# Altium integrated library Analog Devices Data Converters Analog-to-Digital Converters.IntLib: 2404 symbols (part 182 of 346)
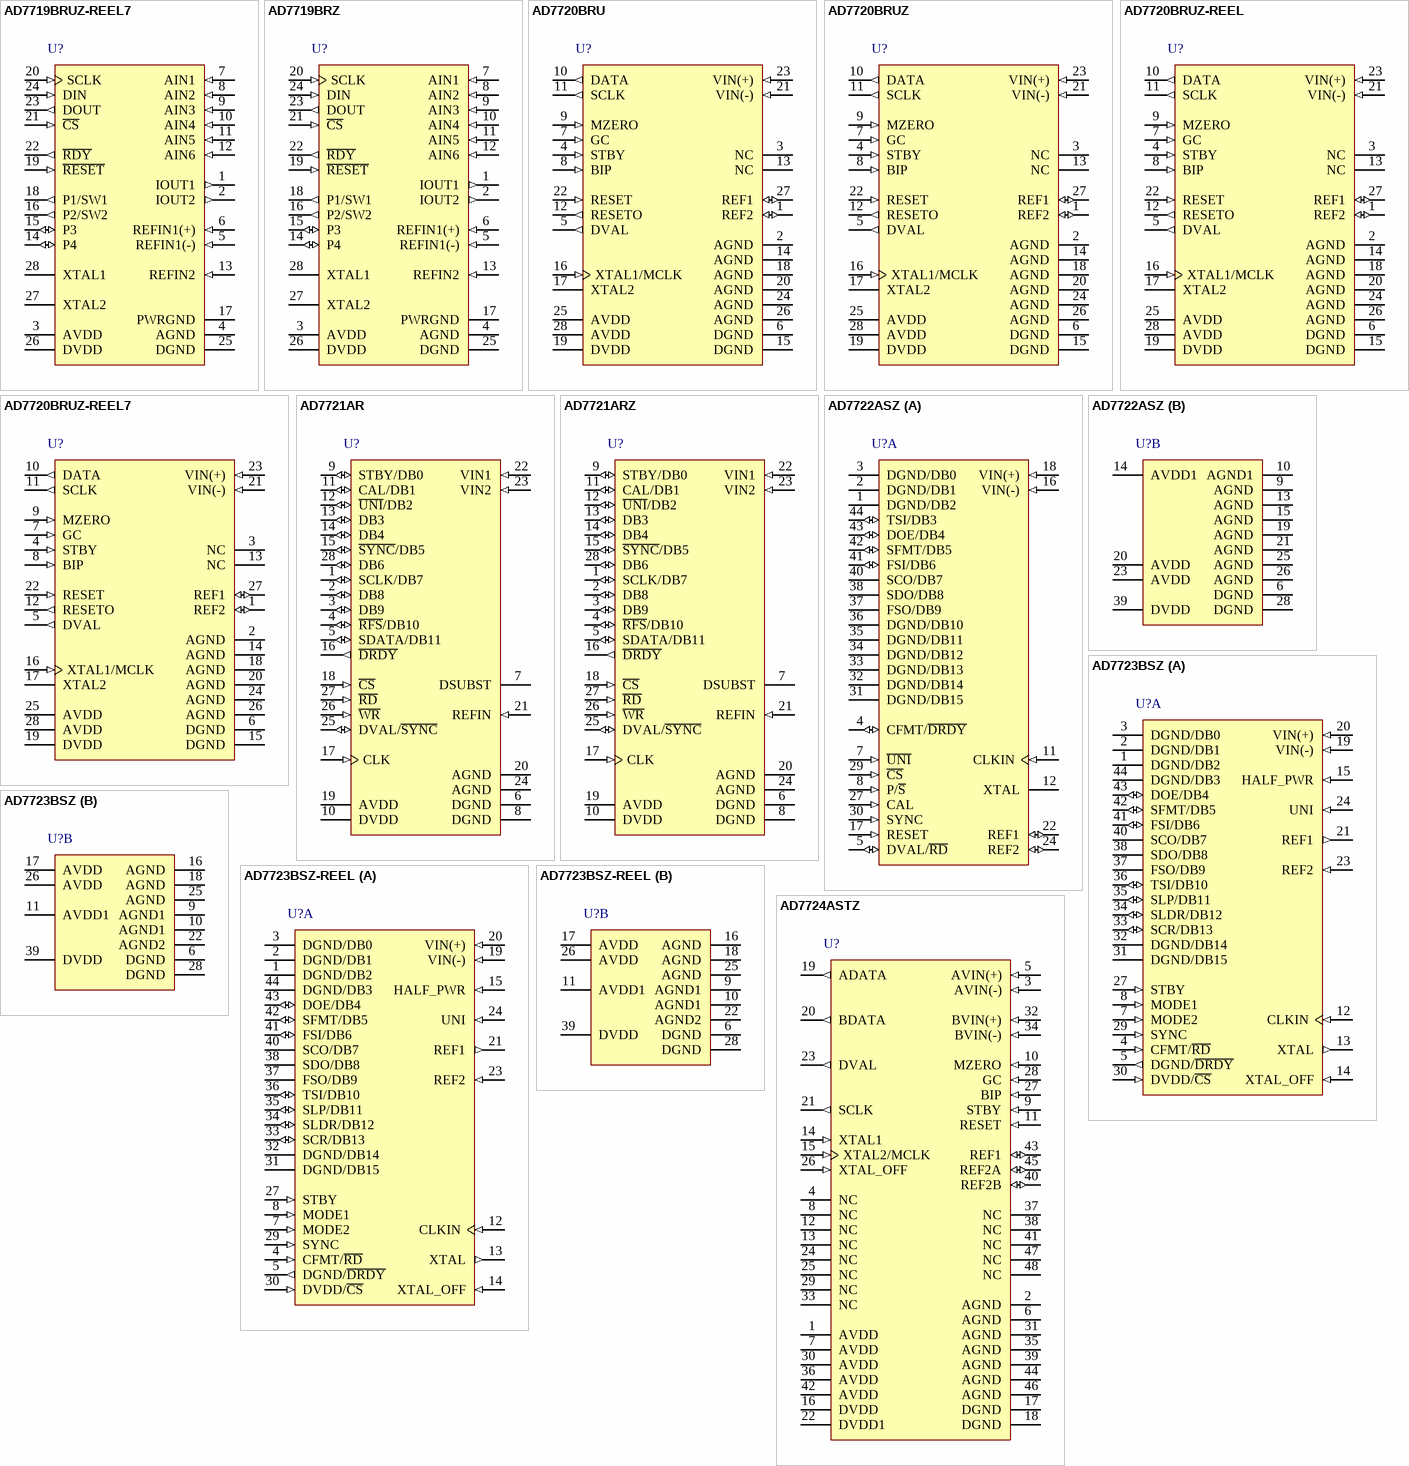
[diagram p353: symbols AD7719BRUZ-REEL7 to AD7724ASTZ]

## AD7722ASZ
designator U?
Single 16-Bit Sigma-Delta Analog-to-Digital Converter with Parallel, Serial Interface, CMOS, 195.3KSPS, -40 to +85 degC, S-44B, Pb-Free, Tray; Generic Part Number: AD7722; Manufacturer: Analog Devices; PartNumber: AD7722ASZ; Resolution (Bits): 16; Channels: 1; Throughput Rate (SPS): 195.3K; Interface: Par, Ser; DatasheetVersion: Rev.B; PackageVersion: 2003; PackageReference: S-44B; PackageDescription: 44-Lead Metric Quad Flat Package [MQFP]; Supplier 1: Digi-Key; Supplier Part Number 1: AD7722ASZ-ND; Supplier 2: Farnell; Supplier Part Number 2: 2305560; Supplier 3: Newark; Supplier Part Number 3: 13M6203; Supplier 4: Mouser; Supplier Part Number 4: 584-AD7722ASZ; RoHS: Y; Packing: Tray; Mounting Technology: Surface Mount; Code_JEDEC: MS-022-AA-1; ComponentLink1Description: Manufacturer URL; ComponentLink1URL: http://www.analog.com/en/index.html; ComponentLink2Description: Datasheet; ComponentLink2URL: http://www.analog.com/static/imported-files/data_sheets/AD7722.pdf; ComponentLink3Description: Package Specification; ComponentLink3URL: S-44B; ComponentLink4Description: Product URL; ComponentLink4URL: http://www.analog.com/en/analog-to-digital-converters/ad-converters/ad7722/products/product.html
footprint S-44B_N (QFP, 44-Leads, Body 10x10mm, Pitch 0.8mm, IPC Medium Density)
footprint S-44B_L (QFP, 44-Leads, Body 10x10mm, Pitch 0.8mm, IPC High Density)
footprint S-44B_M (QFP, 44-Leads, Body 10x10mm, Pitch 0.8mm, IPC Low Density)
part A pins: 1 DGND/DB2 (hiz) "Data Output Bit.", 2 DGND/DB1 (hiz) "Data Output Bit.", 3 DGND/DB0 (hiz) "Data Output Bit (LSB).", 4 CFMT/~{DRDY} (io) "Serial Clock Format Logic Input. The clock format pin selects whether the serial data, SDO, is valid on the rising or falling edge of the serial clock, SCO. When CFMT is logic low, SDO is valid on the falling edge of SCO if (See Datasheet)", 5 DVAL/~{RD} (io) "Data Valid Logic Output. A logic high on DVAL indicates that the conversion result in the output data register is an accurate digital representation of the analog voltage at the input to the   modulator. The DVAL pin is set (See Datasheet)", 7 ~{UNI} (in) "Analog Input Range Select Input. UNI selects the analog input range for either bipolar or unipolar operation. A logic low input selects unipolar operation. A logic high input selects bipolar operation.", 8 P/~{S} (in) "Parallel/Serial Interface Select Input. A logic high configures the output data interface for parallel mode operation. The serial mode operation is selected with the P/S\ set to a logic low.", 11 CLKIN (in) "Clock Input. Master clock signal for the device.The CLKIN pin interfaces the AD7722 internal oscillator circuit to an external crystal or an external clock. A parallel resonant, fundamental-frequency,microprocessor-grade (See Datasheet)", 12 XTAL "Oscillator Output. The XTAL pin connects the internal oscillator output to an external crystal If an external clock is used, XTAL should be left unconnected.", 16 VIN(-) (in) "Negative Terminal of the Differential Analog Input", 17 RESET (in) "Reset Logic Input", 18 VIN(+) (in) "Positive Terminal of the Differential Analog Input.", 22 REF1 (io) "Reference Input/Output. REF1 connects through 3 kO to the output of the internal 2.5 V reference and to the input of a buffer amplifier that drives the sigma-delta modulator. This pin can also be overdriven with an external (See Datasheet)", 24 REF2 (io) "Reference Input/Output. REF2 connects to the output of an internal buffer amplifier used to drive the sigma-delta modulator. When REF2 is used as an input, REF1 must be connected to AGND", 27 CAL (in) "Calibration Logic Input. A logic high input for a duration of one CLKIN cycle initiates a calibration sequence for the device gain and offset error.", 29 ~{CS} (in) "Chip select is a level sensitive logic input. C\S\ enables the output data register for parallel mode read operation. The C\S\ logic level is sensed on the rising edge of CLKIN. The output data bus is enabled when the rising (See Datasheet)", 30 SYNC (in) "Synchronization Logic Input. SYNC is an asynchronous input. When using more than one AD7722 operated from a common master clock, SYNC allows each ADC’s sigma-delta modulator to simultaneously sample its analog input and (See Datasheet)", 31 DGND/DB15 (hiz) "Data Output Bit (MSB).", 32 DGND/DB14 (hiz) "Data Output Bit.", 33 DGND/DB13 (hiz) "Data Output Bit.", 34 DGND/DB12 (hiz) "Data Output Bit.", 35 DGND/DB11 (hiz) "Data Output Bit.", 36 DGND/DB10 (hiz) "Data Output Bit.", 37 FSO/DB9 (hiz) "Data Output Bit.", 38 SDO/DB8 (hiz) "Data Output Bit.", 40 SCO/DB7 (hiz), 41 FSI/DB6 (io), 42 SFMT/DB5 (io), 43 DOE/DB4 (io), 44 TSI/DB3 (io)
part B pins: 6 DGND (power) "Ground Reference for Digital Circuitry.", 9 AGND (power) "Ground Reference for Analog Circuitry.", 10 AGND1 (power) "Clock Logic Ground Reference for the Analog Modulator.", 13 AGND (power) "Ground Reference for Analog Circuitry.", 14 AVDD1 (power) "Clock Logic Power Supply Voltage for the Analog Modulator, 5 V +/- 5%.", 15 AGND (power) "Ground Reference for Analog Circuitry.", 19 AGND (power) "Ground Reference for Analog Circuitry.", 20 AVDD (power) "Analog Power Supply Voltage, 5 V +/- 5%.", 21 AGND (power) "Ground Reference for Analog Circuitry.", 23 AVDD (power) "Analog Power Supply Voltage, 5 V +/- 5%.", 25 AGND (power) "Ground Reference for Analog Circuitry.", 26 AGND (power) "Ground Reference for Analog Circuitry.", 28 DGND (power) "Ground Reference for Digital Circuitry.", 39 DVDD (power) "Digital Power Supply Voltage, 5 V +/- 5%."